# EAGLE library part P98LPC935 (library micro-philips)
8-bit microcontroller with accelerated two-clock core 4 KB/ 8 KB/ 8 KB 3 V byte-erasable Flash with 8-bit A/D converter Source: http://www.nxp.com .. UM_P89LPC933_934_935_1.pdf
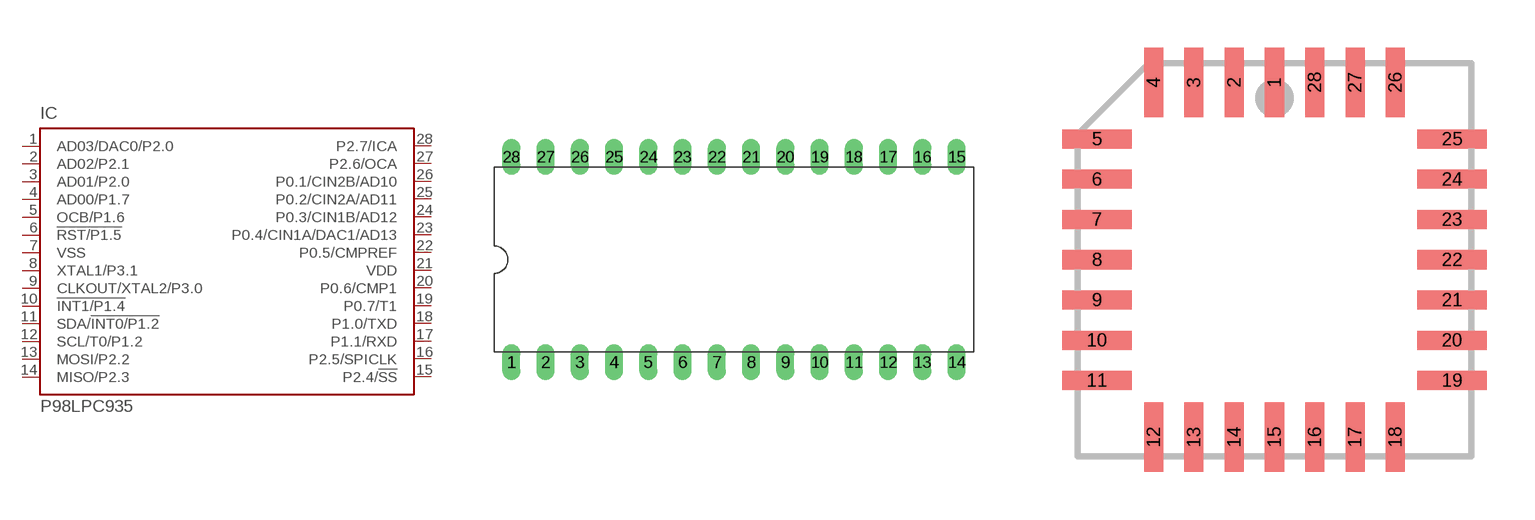
[diagram p7: symbol with the pads of DIL28; footprints DIL28, PLCC28S]

Designator prefix IC

## P98LPC935P (OC_FARNELL: unknown; OC_NEWARK: unknown)  [DIL28]
1  AD03/DAC0/P2.0
2  AD02/P2.1
3  AD01/P2.0
4  AD00/P1.7
5  OCB/P1.6
6  !RST/P1.5
7  VSS
8  XTAL1/P3.1
9  CLKOUT/XTAL2/P3.0
10  !INT1/P1.4
11  SDA/!INT0/P1.2
12  SCL/T0/P1.2
13  MOSI/P2.2
14  MISO/P2.3
15  P2.4/!SS
16  P2.5/SPICLK
17  P1.1/RXD
18  P1.0/TXD
19  P0.7/T1
20  P0.6/CMP1
21  VDD
22  P0.5/CMPREF
23  P0.4/CIN1A/DAC1/AD13
24  P0.3/CIN1B/AD12
25  P0.2/CIN2A/AD11
26  P0.1/CIN2B/AD10
27  P2.6/OCA
28  P2.7/ICA

## P98LPC935L (OC_FARNELL: unknown; OC_NEWARK: unknown)  [PLCC28S]
Pads as for DIL28

## P98LPC935H (OC_FARNELL: unknown; OC_NEWARK: unknown)  [HVQFN28]
1  OCB/P1.6
2  !RST/P1.5
3  VSS
4  XTAL1/P3.1
5  CLKOUT/XTAL2/P3.0
6  !INT1/P1.4
7  SDA/!INT0/P1.2
8  SCL/T0/P1.2
9  MOSI/P2.2
10  MISO/P2.3
11  P2.4/!SS
12  P2.5/SPICLK
13  P1.1/RXD
14  P1.0/TXD
15  P0.7/T1
16  P0.6/CMP1
17  VDD
18  P0.5/CMPREF
19  P0.4/CIN1A/DAC1/AD13
20  P0.3/CIN1B/AD12
21  P0.2/CIN2A/AD11
22  P0.1/CIN2B/AD10
23  P2.6/OCA
24  P2.7/ICA
25  AD03/DAC0/P2.0
26  AD02/P2.1
27  AD01/P2.0
28  AD00/P1.7

## Footprint DIL28 (pad centres in mm)
Dual In Line
drill 0.813 pad 1.27 long: 1 -16.51,-7.62; 2 -13.97,-7.62; 3 -11.43,-7.62; 4 -8.89,-7.62; 5 -6.35,-7.62; 6 -3.81,-7.62; 7 -1.27,-7.62; 8 1.27,-7.62; 9 3.81,-7.62; 10 6.35,-7.62; 11 8.89,-7.62; 12 11.43,-7.62; 13 13.97,-7.62; 14 16.51,-7.62; 15 16.51,7.62; 16 13.97,7.62; 17 11.43,7.62; 18 8.89,7.62; 19 6.35,7.62; 20 3.81,7.62; 21 1.27,7.62; 22 -1.27,7.62; 23 -3.81,7.62; 24 -6.35,7.62; 25 -8.89,7.62; 26 -11.43,7.62; 27 -13.97,7.62; 28 -16.51,7.62

## Footprint PLCC28S (pad centres in mm)
PLASTIC LEADED CHIP CARRIER square
smd 0.6 x 2.2: 1 0,5.6; 2 -1.27,5.6; 3 -2.54,5.6; 4 -3.81,5.6; 12 -3.81,-5.6; 13 -2.54,-5.6; 14 -1.27,-5.6; 15 0,-5.6; 16 1.27,-5.6; 17 2.54,-5.6; 18 3.81,-5.6; 26 3.81,5.6; 27 2.54,5.6; 28 1.27,5.6
smd 2.2 x 0.6: 5 -5.6,3.81; 6 -5.6,2.54; 7 -5.6,1.27; 8 -5.6,0; 9 -5.6,-1.27; 10 -5.6,-2.54; 11 -5.6,-3.81; 19 5.6,-3.81; 20 5.6,-2.54; 21 5.6,-1.27; 22 5.6,0; 23 5.6,1.27; 24 5.6,2.54; 25 5.6,3.81

## Footprint HVQFN28 (pad centres in mm)
HVQFN28: plastic thermal enhanced very thin quad flat package SOT788-1 no leads; 28 terminals; body 6 x 6 x 0.85 mm Source: Data sheet <http://www.nxp.com/documents/data_sheet/P89LPC933_934_935_936.pdf>
smd 0.9 x 0.4: 1 -2.775,1.95; 2 -2.775,1.3; 3 -2.775,0.65; 4 -2.775,0; 5 -2.775,-0.65; 6 -2.775,-1.3; 7 -2.775,-1.95; 15 2.75,-1.95; 16 2.75,-1.3; 17 2.75,-0.65; 18 2.75,0; 19 2.75,0.65; 20 2.75,1.3; 21 2.75,1.95
smd 0.4 x 0.9: 8 -1.95,-2.775; 9 -1.3,-2.775; 10 -0.65,-2.775; 11 0,-2.775; 12 0.65,-2.775; 13 1.3,-2.775; 14 1.95,-2.775; 22 1.95,2.75; 23 1.3,2.75; 24 0.65,2.75; 25 0,2.75; 26 -0.65,2.75; 27 -1.3,2.75; 28 -1.95,2.75
smd 3.5 x 3.5: TH 0,0